# Altium footprint library 18125C225KAT2A.PcbLib: 3 footprints
Each footprint in its own frame and in the unit in brackets; x right, y up, seen from the top. Pads: shape width x height; smd on the part's side, far side on the other; paste and mask are expansions set on the pad; w line width, h text height; cw(c..) or ccw(c..) is an arc to the next point about the centre after c.
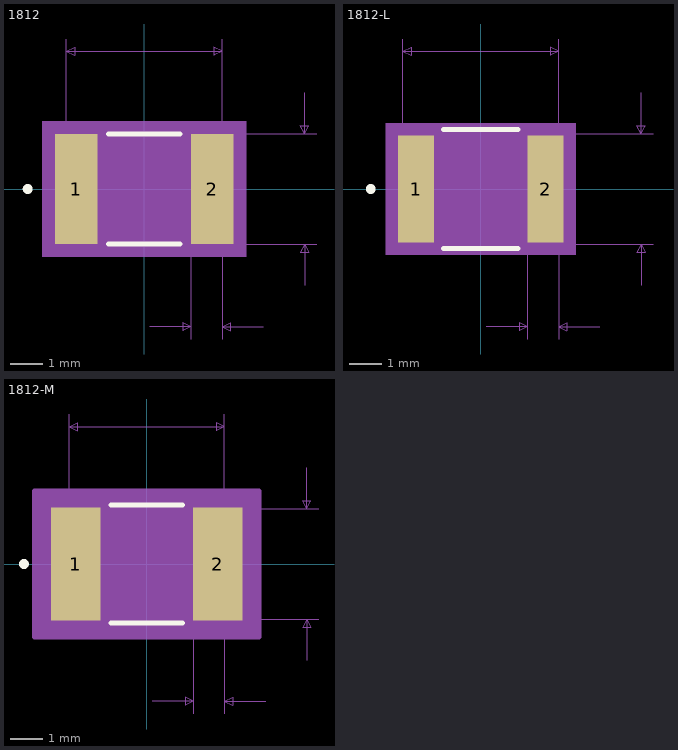
[diagram p0: the footprints below, top view; thin cyan lines are the x and y axes]

## 1812 [mil]
pads (2):
  rect 52x134 smd: 1(-82.5,0) 2(82.5,0)
Top Overlay:
  circle w6: c-141.5,0 r3
  lines w6: -43.4,-67 43.4,-67 ; -43.4,67 43.4,67
Mechanical 5:
  region: 123.5,-82 -123.5,-82 -123.5,82 123.5,82
Mechanical 7:
  lines w1: -94.5,0 -94.5,182 ; 0,-67 209.5,-67 ; 0,67 209.5,67 ; 6.5,-167 56.5,-167 ; 56.5,-182 56.5,0 ; 94.5,-182 94.5,0 94.5,182 ; 144.5,-167 94.5,-167 ; 194.5,-117 194.5,-67 ; 194.5,117 194.5,67 ; -94.5,167 94.5,167 ; -94.5,167 -84.5,172 -84.5,162 -94.5,167 ; 56.5,-167 46.5,-162 46.5,-172 56.5,-167 ; 94.5,-167 104.5,-162 104.5,-172 94.5,-167 ; 94.5,167 84.5,172 84.5,162 94.5,167 ; 194.5,-67 189.5,-77 199.5,-77 194.5,-67 ; 194.5,67 189.5,77 199.5,77 194.5,67
  text "Default Padstyle: RX52Y134D0T" at -362.5,-337 h50
  text "Alternate 1 Padstyle: OX60Y90D30P" at -412.5,-437 h50
  text "Alternate 2 Padstyle: OX90Y60D30P" at -412.5,-537 h50
  text "0.134in/3.404mm" at 214.5,-12.5 h25
  text "0.189in/4.801mm" at -93.75,187 h25
  text "0.038in/0.965mm" at -18.25,-212 h25
Mechanical 13:
  circle w0: c-141.5,0 r3
  lines w1: -94.5,-67 -94.5,67 ; -94.5,-67 -56.5,-67 -56.5,67 -94.5,67 ; -94.5,-67 94.5,-67 ; -94.5,-67 -94.5,67 ; -94.5,67 94.5,67 ; 94.5,-67 56.5,-67 56.5,67 94.5,67 ; 94.5,-67 94.5,67 ; 94.5,-67 94.5,67
Mechanical 15:
  region: 118.5,-77 -118.5,-77 -118.5,77 118.5,77
  lines w6: -118.5,-77 -118.5,77 118.5,77 118.5,-77 -118.5,-77
3D body: height 10, standoff 0, extent 0,0 10,10

## 1812-L [mil]
pads (2):
  rect 44x130 smd paste+0 mask+0: 1(-78.5,0) 2(78.5,0)
Top Overlay:
  circle w6: c-133.5,0 r3
  lines w6: -45.43,-72 45.43,-72 ; -45.43,72 45.43,72
Mechanical 5:
  region: 115.5,-80 -115.5,-80 -115.5,80 115.5,80
Mechanical 7:
  lines w1: -94.5,0 -94.5,182 ; 0,-67 209.5,-67 ; 0,67 209.5,67 ; 6.5,-167 56.5,-167 ; 56.5,-182 56.5,0 ; 94.5,-182 94.5,0 94.5,182 ; 144.5,-167 94.5,-167 ; 194.5,-117 194.5,-67 ; 194.5,117 194.5,67 ; -94.5,167 94.5,167 ; -94.5,167 -84.5,172 -84.5,162 -94.5,167 ; 56.5,-167 46.5,-162 46.5,-172 56.5,-167 ; 94.5,-167 104.5,-162 104.5,-172 94.5,-167 ; 94.5,167 84.5,172 84.5,162 94.5,167 ; 194.5,-67 189.5,-77 199.5,-77 194.5,-67 ; 194.5,67 189.5,77 199.5,77 194.5,67
  text "Default Padstyle: RX44Y130D0T" at -362.5,-335 h50
  text "Alternate 1 Padstyle: OX60Y90D30P" at -412.5,-435 h50
  text "Alternate 2 Padstyle: OX90Y60D30P" at -412.5,-535 h50
  text "0.134in/3.404mm" at 214.5,-12.5 h25
  text "0.189in/4.801mm" at -93.75,187 h25
  text "0.038in/0.965mm" at -18.25,-212 h25
Mechanical 13:
  circle w0: c-73.5,0 r3
  lines w1: -94.5,-67 -94.5,67 ; -94.5,-67 -56.5,-67 -56.5,67 -94.5,67 ; -94.5,-67 94.5,-67 ; -94.5,-67 -94.5,67 ; -94.5,67 94.5,67 ; 94.5,-67 56.5,-67 56.5,67 94.5,67 ; 94.5,-67 94.5,67 ; 94.5,-67 94.5,67
Mechanical 15:
  region: 104.5,-69 -104.5,-69 -104.5,69 104.5,69
  lines w6: -104.5,-69 -104.5,69 104.5,69 104.5,-69 -104.5,-69
3D body: height 10, standoff 0, extent 0,0 10,10

## 1812-M [mil]
pads (2):
  rect 60x138 smd paste+0 mask+0: 1(-86.5,0) 2(86.5,0)
Top Overlay:
  circle w6: c-149.5,0 r3
  lines w6: -43.75,-72 43.75,-72 ; -43.75,72 43.75,72
Mechanical 5:
  region: 131.5,-84 -131.5,-84 -131.5,84 131.5,84
Mechanical 7:
  lines w1: -94.5,0 -94.5,182 ; 0,-67 209.5,-67 ; 0,67 209.5,67 ; 6.5,-167 56.5,-167 ; 56.5,-182 56.5,0 ; 94.5,-182 94.5,0 94.5,182 ; 144.5,-167 94.5,-167 ; 194.5,-117 194.5,-67 ; 194.5,117 194.5,67 ; -94.5,167 94.5,167 ; -94.5,167 -84.5,172 -84.5,162 -94.5,167 ; 56.5,-167 46.5,-162 46.5,-172 56.5,-167 ; 94.5,-167 104.5,-162 104.5,-172 94.5,-167 ; 94.5,167 84.5,172 84.5,162 94.5,167 ; 194.5,-67 189.5,-77 199.5,-77 194.5,-67 ; 194.5,67 189.5,77 199.5,77 194.5,67
  text "Default Padstyle: RX60Y138D0T" at -362.5,-339 h50
  text "Alternate 1 Padstyle: OX60Y90D30P" at -412.5,-439 h50
  text "Alternate 2 Padstyle: OX90Y60D30P" at -412.5,-539 h50
  text "0.134in/3.404mm" at 214.5,-12.5 h25
  text "0.189in/4.801mm" at -93.75,187 h25
  text "0.038in/0.965mm" at -18.25,-212 h25
Mechanical 13:
  circle w0: c-81.5,0 r3
  lines w1: -94.5,-67 -94.5,67 ; -94.5,-67 -56.5,-67 -56.5,67 -94.5,67 ; -94.5,-67 94.5,-67 ; -94.5,-67 -94.5,67 ; -94.5,67 94.5,67 ; 94.5,-67 56.5,-67 56.5,67 94.5,67 ; 94.5,-67 94.5,67 ; 94.5,-67 94.5,67
Mechanical 15:
  region: 136.5,-89 -136.5,-89 -136.5,89 136.5,89
  lines w6: -136.5,-89 -136.5,89 136.5,89 136.5,-89 -136.5,-89
3D body: height 10, standoff 0, extent 0,0 10,10